# Altium footprint library Warrison.PcbLib: 39 footprints (part 1 of 3)
Each footprint in its own frame and in the unit in brackets; x right, y up, seen from the top. Pads: shape width x height; smd on the part's side, far side on the other; paste and mask are expansions set on the pad; w line width, h text height; cw(c..) or ccw(c..) is an arc to the next point about the centre after c.
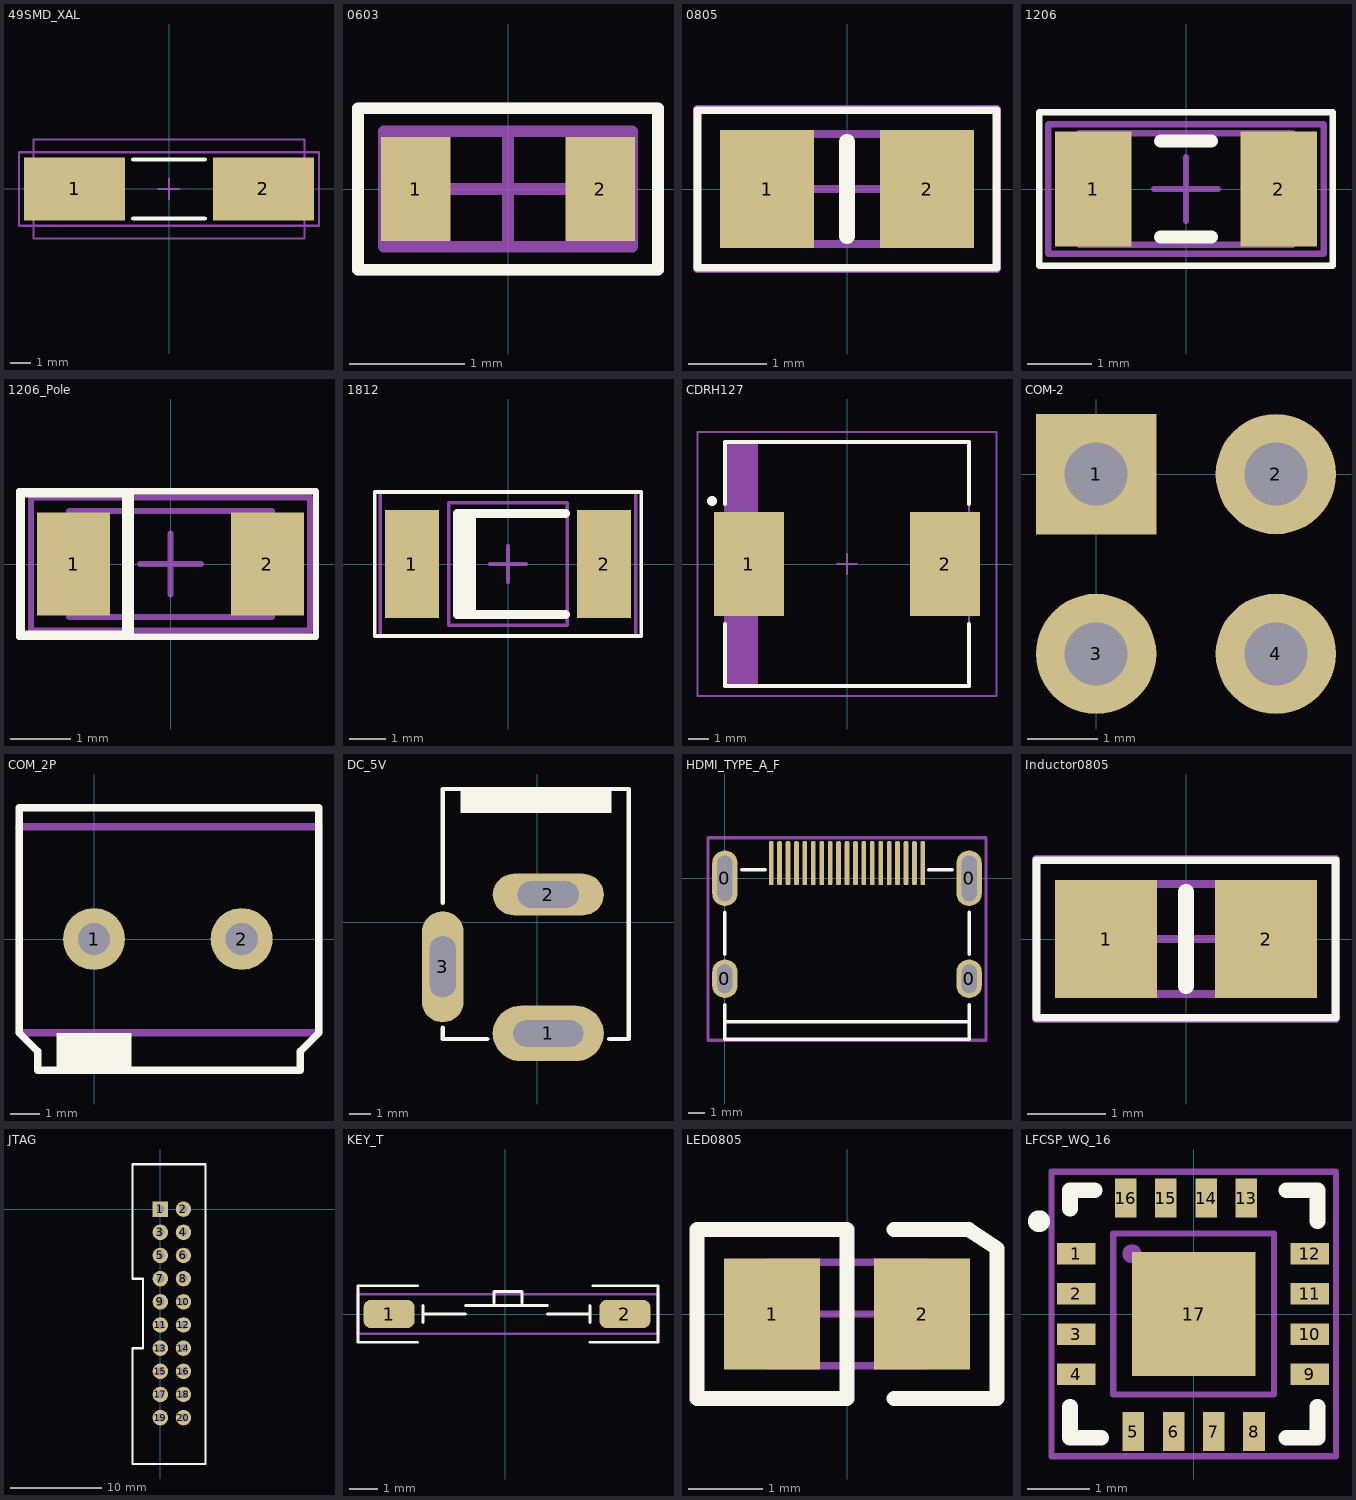
[diagram p0: the footprints below, top view; thin cyan lines are the x and y axes]

## 49SMD_XAL [mm]
height 4.4
pads (2):
  rect 4.8x3 smd: 1(-4.5,0) 2(4.5,0)
Top Overlay:
  lines w0.2: -1.7,-1.4 1.7,-1.4 ; -1.7,1.4 1.7,1.4
Mechanical 13:
  lines w0.1: -6.45,-2.35 6.45,-2.35 6.45,2.35 -6.45,2.35 -6.45,-2.35
Mechanical 15:
  lines w0.1: -0.5,0 0.5,0 ; 0,-0.5 0,0.5 ; -7.15,-1.75 7.15,-1.75 7.15,1.75 -7.15,1.75 -7.15,-1.75
3D body: height 4.4, standoff 0, extent -6.45,-2.35 6.45,2.35

## 0603 [mm]
height 0.5
pads (2):
  rect 0.6x0.9 smd: 1(-0.8,0) 2(0.8,0)
Top Overlay:
  lines w0.1: -1.3,-0.7 -1.3,0.7 1.3,0.7 1.3,-0.7 -1.3,-0.7
Mechanical 13:
  lines w0.1: -1.075,-0.5 -1.075,0.5 1.075,0.5 1.075,-0.5 -1.075,-0.5
Mechanical 15:
  lines w0.1: -0.5,0 0.5,0 ; 0,-0.5 0,0.5 ; -1.3,-0.7 -1.3,0.7 1.3,0.7 1.3,-0.7 -1.3,-0.7
3D body: height 0.7, standoff 0, extent -0.8,-0.5 0.8,0.5

## 0805 [mm]
pads (2):
  rect 1.2x1.5 smd: 1(-1.016,0) 2(1.016,0)
Top Overlay:
  lines w0.1: -1.9,-1 -1.9,1 1.9,1 1.9,-1 -1.9,-1
  lines w0.2: 0,-0.6 0,0.6
Mechanical 13:
  lines w0.1: -1.075,-0.7 1.075,-0.7 1.075,0.7 -1.075,0.7 -1.075,-0.7
Mechanical 15:
  lines w0.1: -0.5,0 0.5,0 ; 0,-0.5 0,0.5 ; -1.905,-1.016 1.905,-1.016 1.905,1.016 -1.905,1.016 -1.905,-1.016
3D body: height 0.7, standoff 0, extent -1.075,-0.7 1.075,0.7

## 1206 [mm]
pads (2):
  rect 1.2x1.8 smd: 1(-1.45,0) 2(1.45,0)
Top Overlay:
  lines w0.1: -2.3,-1.2 -1,-1.2 2.3,-1.2 2.3,1.2 -2.3,1.2 -2.3,-1.2
  lines w0.2: -0.4,-0.75 0.4,-0.75 ; -0.4,0.75 0.4,0.75
Mechanical 13:
  lines w0.1: -1.675,-0.875 -1.675,0.875 1.675,0.875 1.675,-0.875 -1.675,-0.875
Mechanical 15:
  lines w0.1: -0.5,0 0.5,0 ; 0,-0.5 0,0.5 ; -2.159,-1.016 -2.159,1.016 2.159,1.016 2.159,-1.016 -2.159,-1.016
3D body: height 2.54, standoff 0, extent -1.675,-0.875 1.675,0.875

## 1206_Pole [mm]
pads (2):
  rect 1.2x1.7 smd: 1(-1.6,0) 2(1.6,0)
Top Overlay:
  rectangle: -2.5,-1.1 -2.4,1.1
  rectangle: -0.8,-1.2 -0.6,1.2
  rectangle: -2.5,1.1 -0.8,1.2
  rectangle: -2.5,-1.2 -0.8,-1.1
  lines w0.1: -2.5,-1.2 -2.5,1.2 2.4,1.2 2.4,-1.2 -2.5,-1.2
Mechanical 13:
  lines w0.1: -1.675,-0.875 -1.675,0.875 1.675,0.875 1.675,-0.875 -1.675,-0.875
Mechanical 15:
  lines w0.1: -0.5,0 0.5,0 ; 0,-0.5 0,0.5 ; -2.3,-1.1 -2.3,1.1 2.3,1.1 2.3,-1.1 -2.3,-1.1
3D body: height 2.54, standoff 0, extent -1.675,-0.875 1.675,0.875

## 1812 [mm] "2-Leads, Body 4.6x3.2mm, IPC Low Density"
height 3.4
pads (2):
  rect 1.5x3 smd: 1(-2.667,0) 2(2.667,0)
Top Overlay:
  rectangle: -1.439,-1.403 -0.889,1.397
  lines w0.1: -3.7,-2 3.7,-2 3.7,2 -3.7,2 -3.7,-2
  lines w0.25: 1.6,-1.4 -1.397,-1.4 -1.397,1.397 1.6,1.397
Mechanical 13:
  lines w0.1: -1.651,-1.7 -1.651,1.7 1.651,1.7 1.651,-1.7 -1.651,-1.7
Mechanical 15:
  lines w0.1: -0.5,0 0.5,0 ; 0,-0.5 0,0.5 ; -3.55,-2 -3.55,2 3.55,2 3.55,-2 -3.55,-2
3D body: height 3.4, standoff 0, extent -2.45,-1.7 2.45,1.7

## CDRH127 [mm] "Precision Wire Wound Inductor, 2-Leads, Body 12x12mm, IPC Low Density"
height 8
pads (2):
  rect 3.5x5.2 smd: 1(-4.9,0) 2(4.9,0)
Top Overlay:
  circle w0.25: c-6.75,3.15 r0.125
  lines w0.2: -6.1,-3 -6.1,-6.1 6.1,-6.1 6.1,-3 ; -6.1,3 -6.1,6.1 6.1,6.1 6.1,3
Mechanical 13:
  rectangle: -6.1,-6.1 -4.459,6.1
  lines w0.1: -6.1,-6.1 6.1,-6.1 6.1,6.1 -6.1,6.1 -6.1,-6.1
Mechanical 15:
  lines w0.1: -0.5,0 0.5,0 ; 0,-0.5 0,0.5 ; -7.475,-6.6 7.475,-6.6 7.475,6.6 -7.475,6.6 -7.475,-6.6
3D body: height 8, standoff 0, extent -6.1,-6.1 6.1,6.1

## COM-2 [mm]
pads (4):
  rect 1.7x1.7 hole 0.89: 1(0,0)
  round 1.7 hole 0.89: 2(2.54,0) 3(0,-2.54) 4(2.54,-2.54)

## COM_2P [mm] "Pitch 5.0mm, 2 PIN"
pads (2):
  round 2.1 hole 1.1: 1(0,0) 2(5,0)
Top Overlay:
  rectangle: -1.27,-4.445 1.27,-3.175
  lines w0.254: -2.54,-3.175 -1.905,-3.81 -1.905,-4.445 6.985,-4.445 6.985,-3.81 7.62,-3.175 7.62,4.445 -2.54,4.445 -2.54,-3.175
Mechanical 13:
  lines w0.254: -2.54,-3.175 7.62,-3.175 7.62,0 7.62,3.81 -2.54,3.81 -2.54,0 -2.54,-3.175

## DC_5V [mil]
pads (3):
  oval 200x100 hole 47.24 slot 125.98 at 0 deg: 1(20,-200)
  oval 200x75 hole 47.24 slot 110.24 at 0 deg: 2(20,50)
  oval 75x200 hole 47.24 slot 110.24 at 90 deg: 3(-170,-80)
Top Overlay:
  rectangle: -137.8,196.85 133.86,236.22
  lines w7.87: -170,-190 -170,-210 -90,-210 ; -170,35 -170,240 165,240 165,-210 130,-210

## HDMI_TYPE_A_F [mm] "HDMI, Female Type A"
pads (23):
  oval 1.5x2.3 hole 0.9 slot 1.7 at 90 deg: 0(0,-5.96) 0(14.5,-5.96)
  oval 1.5x3.3 hole 0.9 slot 2.7 at 90 deg: 0(0,0) 0(14.5,0)
  rrect50% 0.28x2.6 smd: 1(11.75,0.9) 2(11.25,0.9) 3(10.75,0.9) 4(10.25,0.9) 5(9.75,0.9) 6(9.25,0.9) 7(8.75,0.9) 8(8.25,0.9) 9(7.75,0.9) 10(7.25,0.9) 11(6.75,0.9) 12(6.25,0.9) 13(5.75,0.9) 14(5.25,0.9) 15(4.75,0.9) 16(4.25,0.9) 17(3.75,0.9) 18(3.25,0.9) 19(2.75,0.9)
Top Overlay:
  lines w0.2: 0,-8.5 14.4,-8.5 ; 0,-7.5 0,-9.55 14.5,-9.55 14.5,-7.5 ; 0,-4.5 0,-2 ; 1,0.5 2.4,0.5 ; 12.1,0.5 13.5,0.5 ; 14.5,-4.5 14.5,-2
Mechanical 13:
  lines w0.2: -1,-9.6 15.5,-9.6 15.5,2.4 -1,2.4 -1,-9.6
Mechanical 15:
  lines w0.1: -1,-9.6 15.5,-9.6 15.5,2.4 -1,2.4 -1,-9.6

## Inductor0805 [mm]
pads (2):
  rect 1.3x1.5 smd: 1(-1.016,0) 2(1.016,0)
Top Overlay:
  lines w0.1: -1.9,-1 -1.9,1 1.9,1 1.9,-1 -1.9,-1
  lines w0.2: 0,-0.6 0,0.6
Mechanical 13:
  lines w0.1: -1.075,-0.7 -1.075,0.7 1.075,0.7 1.075,-0.7 -1.075,-0.7
Mechanical 15:
  lines w0.1: -0.5,0 0.5,0 ; 0,-0.5 0,0.5 ; -1.905,-1.016 -1.905,1.016 1.905,1.016 1.905,-1.016 -1.905,-1.016
3D body: height 0.7, standoff 0, extent -1.075,-0.7 1.075,0.7

## JTAG [mm]
pads (20):
  rect 1.7x1.7 hole 0.89: 1(0,0)
  round 1.7 hole 0.89: 2(2.54,0) 3(0,-2.54) 4(2.54,-2.54) 5(0,-5.08) 6(2.54,-5.08) 7(0,-7.62) 8(2.54,-7.62) 9(0,-10.16) 10(2.54,-10.16) 11(0,-12.7) 12(2.54,-12.7) 13(0,-15.24) 14(2.54,-15.24) 15(0,-17.78) 16(2.54,-17.78) 17(0,-20.32) 18(2.54,-20.32) 19(0,-22.86) 20(2.54,-22.86)
Top Overlay:
  lines w0.254: -3.048,-27.932 1.778,-27.932 4.953,-27.932 ; -3.048,-15.24 -1.905,-15.24 -1.905,-12.446 -1.905,-7.62 -3.048,-7.62 ; -3.048,4.924 4.945,4.924 ; -3.04,-27.94 -3.04,-15.24 ; -3.04,-7.62 -3.04,4.945 ; 4.945,-27.932 4.945,4.945

## KEY_T [mm]
height 5
pads (2):
  rrect50% 1.8x1 smd: 1(-4.104,0) 2(4.231,0)
Top Overlay:
  lines w0.1: -3.1,-1 -5.2,-1 -5.2,1 -3.1,1 ; -2.9,-0.3 -2.9,0.3 ; -2.9,0 -1.4,0 ; -1.4,0.3 1.5,0.3 ; -0.4,0.4 -0.4,0.8 0.6,0.8 0.6,0.4 ; 1.5,0 3,0 ; 3,-1 5.4,-1 5.4,1 3.1,1 ; 3,-0.3 3,0.3
Mechanical 15:
  lines w0.1: -5.2,-0.7 -5.2,0.7 5.4,0.7 5.4,-0.7 -5.2,-0.7

## LED0805 [mm]
pads (2):
  rect 1.3x1.5 smd: 1(-1.016,0) 2(1.016,0)
Top Overlay:
  lines w0.2: 0,-0.635 0,-1.143 -0.254,-1.143 -1.778,-1.143 -2.032,-1.143 -2.032,1.143 -1.778,1.143 -0.254,1.143 0,1.143 0,0.508 ; 0,-0.6 0,0.6 ; 0.635,-1.143 2.032,-1.143 2.032,0.889 1.651,1.143 0.635,1.143
Mechanical 13:
  lines w0.1: -1.075,-0.7 1.075,-0.7 1.075,0.7 -1.075,0.7 -1.075,-0.7
Mechanical 15:
  lines w0.1: -0.5,0 0.5,0 ; 0,-0.5 0,0.5
3D body: height 0.7, standoff 0, extent -1.075,-0.7 1.075,0.7

## LFCSP_WQ_16 [mm]
pads (17):
  rect 0.625x0.35 smd: 1(-1.9,0.975) 2(-1.9,0.325) 3(-1.9,-0.325) 4(-1.9,-0.975) 9(1.875,-0.975) 10(1.875,-0.325) 11(1.875,0.325) 12(1.875,0.975)
  rect 0.35x0.625 smd: 5(-0.975,-1.9) 6(-0.325,-1.9) 7(0.325,-1.9) 8(0.975,-1.9) 13(0.85,1.875) 14(0.2,1.875) 15(-0.45,1.875) 16(-1.1,1.875)
  rect 2x2 smd: 17(0,0)
Top Overlay:
  circle w0.254: c-2.5,1.5 r0.05
  lines w0.254: -2,-1.5 -2,-2 -1.5,-2 ; -2,1.7 -2,2 -1.6,2 ; 1.5,-2 2,-2 2,-1.5 ; 1.5,2 2,2 2,1.5
Mechanical 1:
  circle w0.254: c-1,0.975 r0.025
  lines w0.1: -2.3,-2.3 -2.3,2.3 2.3,2.3 2.3,-2.3 -2.3,-2.3 ; -1.3,-1.3 1.3,-1.3 1.3,1.3 -1.3,1.3 -1.3,-1.3